# Altium schematic symbol library MAX4466EXK.SchLib: 1 symbol
Pins are listed as number, name and electrical type; pins without a type are passive.

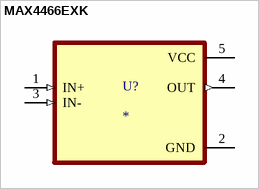
[diagram p0: symbol MAX4466EXK]

## MAX4466EXK
designator U?
Audio Amp Microphone 1-CH Mono Class-AB 5-Pin SC-70 T/R; MF: Analog Devices; MP: MAX4466EXK+T; SnapEDA_Link: https://www.snapeda.com/parts/MAX4466EXK+T/Analog+Devices/view-part/?ref=snap; Package: SC-70-5 Maxim; Value: *; Check_prices: https://www.snapeda.com/parts/MAX4466EXK+T/Analog+Devices/view-part/?ref=eda
footprint SOT65P210X110-5N
pins: 1 IN+ (in), 2 GND (power), 3 IN- (in), 4 OUT (out), 5 VCC (power)